# Altium schematic symbol library XC6223T331MR-G.SchLib: 1 symbol
Pins are listed as number, name and electrical type; pins without a type are passive.

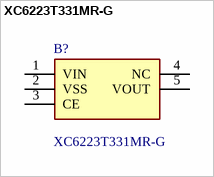
[diagram p0: symbol XC6223T331MR-G]

## XC6223T331MR-G
designator B?
LDO Voltage Regulators; Manufacturer_Name: Torex; Geometry.Height: 1.3mm; Farnell Part Number: *; Farnell Price/Stock: *; Manufacturer_Part_Number: XC6223T331MR-G; Datasheet Link: https://www.torexsemi.com/file/xc6223/XC6223.pdf
footprint SOT95P280X130-5N
pins: 1 VIN, 2 VSS, 3 CE, 4 NC, 5 VOUT